# EAGLE library part 64900621022 (library Wire-to-Board (rev18a))
WR-MPC4-4.20mm Male Dual Row Angled Header with Mounting Flanges for Screw-in Retention,6 pins=>Code : Con_WTB_MPC4_2_PCB_64900621022 <http://katalog.we-online.de/media/thumbs2/eican/thb_Con_WTB_MPC4_2_PCB_6490xx21022_pf2.jpg> Details see: http://katalog.we-online.de/en/em/MPC4_4_20_MALE_DUAL_ROW_ANGLED_HEADER_W_MOUNTING_FLANGES_6490XX21022 Created 2014-06-06, Karrer Zheng 2014 (C) Würth Elektronik
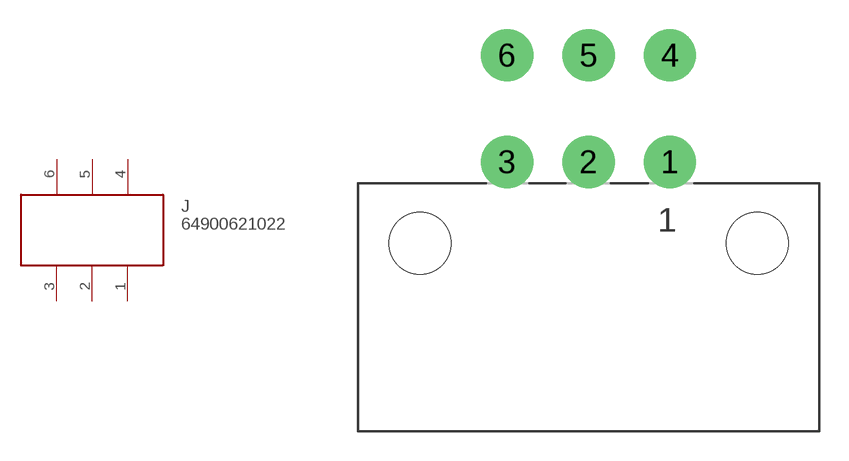
[diagram p275: symbol with the pads of 64900621022; footprint 64900621022]

Designator prefix J

## 64900621022  [64900621022]
1  1  pas
2  2  pas
3  3  pas
4  4  pas
5  5  pas
6  6  pas

## Footprint 64900621022 (pad centres in mm)
WR-MPC4-4.20mm Male Dual Row Angled Header with Mounting Flanges for Screw-in Retention,6 pins
drill 1.8: 1 4.2,4.2; 2 0,4.2; 3 -4.2,4.2; 4 4.2,9.7; 5 0,9.7; 6 -4.2,9.7
hole 3.2 at -8.7,0
hole 3.2 at 8.7,0